# Altium footprint library Standard.PcbLib: 22 footprints (part 2 of 2)
Each footprint in its own frame and in the unit in brackets; x right, y up, seen from the top. Pads: shape width x height; smd on the part's side, far side on the other; paste and mask are expansions set on the pad; w line width, h text height; cw(c..) or ccw(c..) is an arc to the next point about the centre after c.
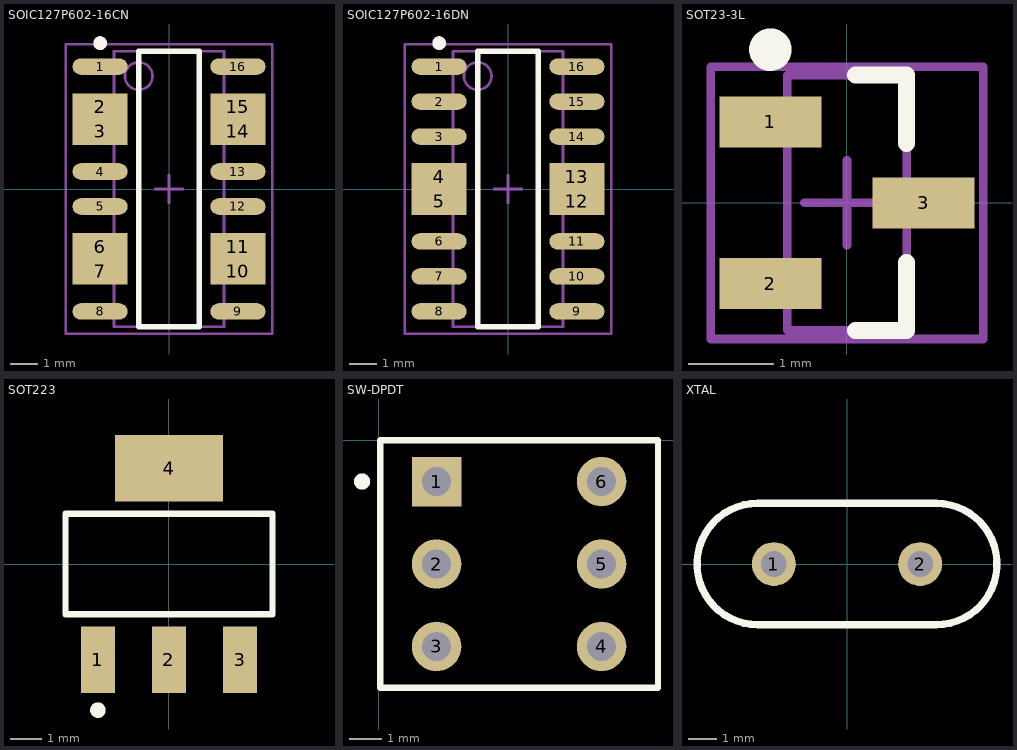
[diagram p1: the footprints below, top view; thin cyan lines are the x and y axes]

## SOIC127P602-16CN [mm] "16-Pin Small Outline Integrated Circuit 1.27 mm Pitch"
height 1.5
pads (16):
  oval 2x0.6 smd: 1(-2.5,4.445) 4(-2.5,0.635) 5(-2.5,-0.635) 8(-2.5,-4.445) 9(2.5,-4.445) 12(2.5,-0.635) 13(2.5,0.635) 16(2.5,4.445)
  rect 2x0.99 smd: 2(-2.5,2.98) 3(-2.5,2.1) 6(-2.5,-2.1) 7(-2.5,-2.98) 10(2.5,-2.98) 11(2.5,-2.1) 14(2.5,2.1) 15(2.5,2.98)
Top Overlay:
  circle w0.25: c-2.5,5.295 r0.125
  lines w0.2: -1.1,-5 -1.1,5 1.1,5 1.1,-5 -1.1,-5
Mechanical 13:
  circle w0.1: c-1.1,4.1 r0.5
  lines w0.1: -2,-5 -2,5 2,5 2,-5 -2,-5
Mechanical 15:
  lines w0.1: -0.5,0 0.5,0 ; 0,-0.5 0,0.5 ; -3.75,-5.25 -3.75,5.25 3.75,5.25 3.75,-5.25 -3.75,-5.25
3D body: height 1.5, standoff 0, extent -2,-5 2,5

## SOIC127P602-16DN [mm] "16-Pin Small Outline Integrated Circuit 1.27 mm Pitch"
height 1.5
pads (16):
  oval 2x0.6 smd: 1(-2.5,4.445) 2(-2.5,3.175) 3(-2.5,1.905) 6(-2.5,-1.905) 7(-2.5,-3.175) 8(-2.5,-4.445) 9(2.5,-4.445) 10(2.5,-3.175) 11(2.5,-1.905) 14(2.5,1.905) 15(2.5,3.175) 16(2.5,4.445)
  rect 2x0.99 smd: 4(-2.5,0.44) 5(-2.5,-0.44) 12(2.5,-0.44) 13(2.5,0.44)
Top Overlay:
  circle w0.25: c-2.5,5.295 r0.125
  lines w0.2: -1.1,-5 -1.1,5 1.1,5 1.1,-5 -1.1,-5
Mechanical 13:
  circle w0.1: c-1.1,4.1 r0.5
  lines w0.1: -2,-5 -2,5 2,5 2,-5 -2,-5
Mechanical 15:
  lines w0.1: -0.5,0 0.5,0 ; 0,-0.5 0,0.5 ; -3.75,-5.25 -3.75,5.25 3.75,5.25 3.75,-5.25 -3.75,-5.25
3D body: height 1.5, standoff 0, extent -2,-5 2,5

## SOT23-3L [mm] "SOT23, 3-Leads, Body 2.9x1.3mm, Pitch 0.95mm, Lead Span 2.5mm, IPC High Density"
height 1.1
pads (3):
  rect 1.2x0.6 smd: 1(-0.9,0.95) 2(-0.9,-0.95) 3(0.9,0)
Top Overlay:
  circle w0.25: c-0.9,1.8 r0.125
  lines w0.2: 0.1,-1.5 0.7,-1.5 0.7,-0.7 ; 0.1,1.5 0.7,1.5 0.7,0.7
Mechanical 13:
  lines w0.1: -0.7,-1.5 -0.7,1.5 0.7,1.5 0.7,-1.5 -0.7,-1.5
Mechanical 15:
  lines w0.1: -0.5,0 0.5,0 ; 0,-0.5 0,0.5 ; -1.6,-1.6 -1.6,1.6 1.6,1.6 1.6,-1.6 -1.6,-1.6
3D body: height 1.1, standoff 0, extent -0.7,-1.5 0.7,1.5

## SOT223 [mm]
pads (4):
  rect 1.1x2.15 smd: 1(-2.3,-3.1) 2(0,-3.1) 3(2.3,-3.1)
  rect 3.5x2.15 smd: 4(0,3.1)
Top Overlay:
  circle w0.25: c-2.3,-4.725 r0.125
  lines w0.2: -3.35,-1.625 -3.35,1.625 3.35,1.625 3.35,-1.625 -3.35,-1.625

## SW-DPDT [mil]
pads (6):
  rect 60x60 hole 35: 1(70,-50)
  round 60 hole 35: 2(70,-150) 3(70,-250) 4(270,-250) 5(270,-150) 6(270,-50)
Top Overlay:
  circle w9.84: c-20.39,-49.96 r4.92
  lines w7.87: 1.5,-300 1.5,0 338.5,0 338.5,-300 1.5,-300

## XTAL [mil]
pads (2):
  round 60 hole 35: 1(-100,0) 2(100,0)
Top Overlay:
  lines w10: -122,-83 cw(c-122,0.02) -122,83.05 122,83 cw(c122,0) 122,-83 -122,-83